# EAGLE library part EHH (library EHH)
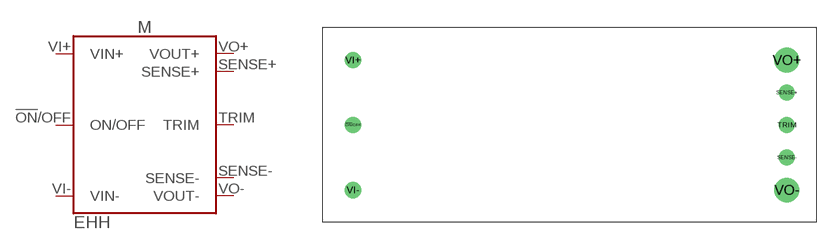
[diagram p0: symbol with the pads of EHH; footprint EHH]

Designator prefix M

## EHHD006A0B41 (MF: GE / ABB Power Electronics; MPN: EHHD006A0B41-HZ)  [EHH]
!ON!/OFF  ON/OFF
SENSE+  SENSE+  in
SENSE-  SENSE-  in
TRIM  TRIM  in
VI+  VIN+  pwr
VI-  VIN-  pwr
VO+  VOUT+  pwr
VO-  VOUT-  pwr

## Footprint EHH (pad centres in mm)
drill 1.27: !ON!/OFF -20.5,-0.02; SENSE+ 30.3,3.79; SENSE- 30.3,-3.83; TRIM 30.3,-0.02; VI+ -20.5,7.6; VI- -20.5,-7.64
drill 1.93: VO+ 30.3,7.6; VO- 30.3,-7.64